# EAGLE library part 693071030811 (library Wurth_Connectors_WR-CRD)
WR-CRD Micro SD Card Connector Push & Push 8 pins KIND PROPERTIES Quality Class 10 000 Mating cycles Gender Socket Type Push & Push General Information Operating Temperature -25 up to +85 °C; -40 up to +85 °C Compliance RoHS Electrical Properties Working Voltage 30 V (AC); 100 V (AC) Withstanding Voltage 500 V (AC) Contact Resistance 100 mΩ Contact Resistance 500 mΩ Material Properties Insulator Material LCP Insulator Flammability Rating UL94 V-0 Insulator Color Black Color Black Cover Material Stainless Steel Contact Material Copper Alloy Contact Plating 1 u' on contact area; Selective Gold Contact Type Stamped <hhttps://www.we-online.com/components/media/o32845v209%20Family_ConCRD_693071010811.jpg> Details see: www.we-online.com/en/components/products/CRD_SD_MICRO_PUSH_AND_PULL_8_PINS Updated by Ella Wu 2020-04-15 2020(C) Wurth Elektronik
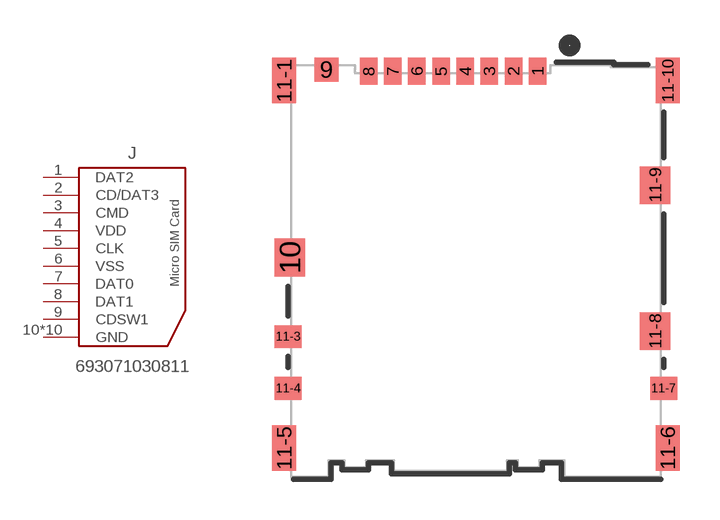
[diagram p3: symbol with the pads of 693071030811; footprint 693071030811]

Designator prefix J

## 693071030811 (DATASHEET-URL: https://www.we-online.com/redexpert/spec/693071030811?ae; GERDER: Socket; IR: 0.5A; MOUNT: SMT; PART-NUMBER: 693071030811; PINS: 8; TYPE: Push & Push; VALUE: 693071030811; WORKING-VOLTAGE: 30V(AC))  [693071030811]
1  DAT2
2  CD/DAT3
3  CMD
4  VDD
5  CLK
6  VSS
7  DAT0
8  DAT1
9  CDSW1
10  GND
11-1  GND
11-3  GND
11-4  GND
11-5  GND
11-6  GND
11-7  GND
11-8  GND
11-9  GND
11-10  GND

## Footprint 693071030811 (pad centres in mm)
WR-CRD Micro SD Card Connector Push & Push 8 pins
smd 0.65 x 1: 1 2.3,7.445; 2 1.4,7.445; 3 0.5,7.445; 4 -0.4,7.445; 5 -1.3,7.445; 6 -2.2,7.445; 7 -3.1,7.445; 8 -4,7.445
smd 0.9 x 0.9: 9 -5.57,7.495
smd 1.13 x 1.4: 10 -6.935,0.495; 11-8 6.68,-2.255; 11-9 6.68,3.195
smd 0.9 x 1.7: 11-1 -7.15,7.095; 11-5 -7.15,-6.605; 11-6 7.15,-6.605; 11-10 7.15,7.095
smd 1 x 0.85: 11-3 -7,-2.455; 11-4 -7,-4.385; 11-7 7,-4.385